# Altium footprint library Indutor.PcbLib: 32 footprints (part 2 of 2)
Each footprint in its own frame and in the unit in brackets; x right, y up, seen from the top. Pads: shape width x height; smd on the part's side, far side on the other; paste and mask are expansions set on the pad; w line width, h text height; cw(c..) or ccw(c..) is an arc to the next point about the centre after c.
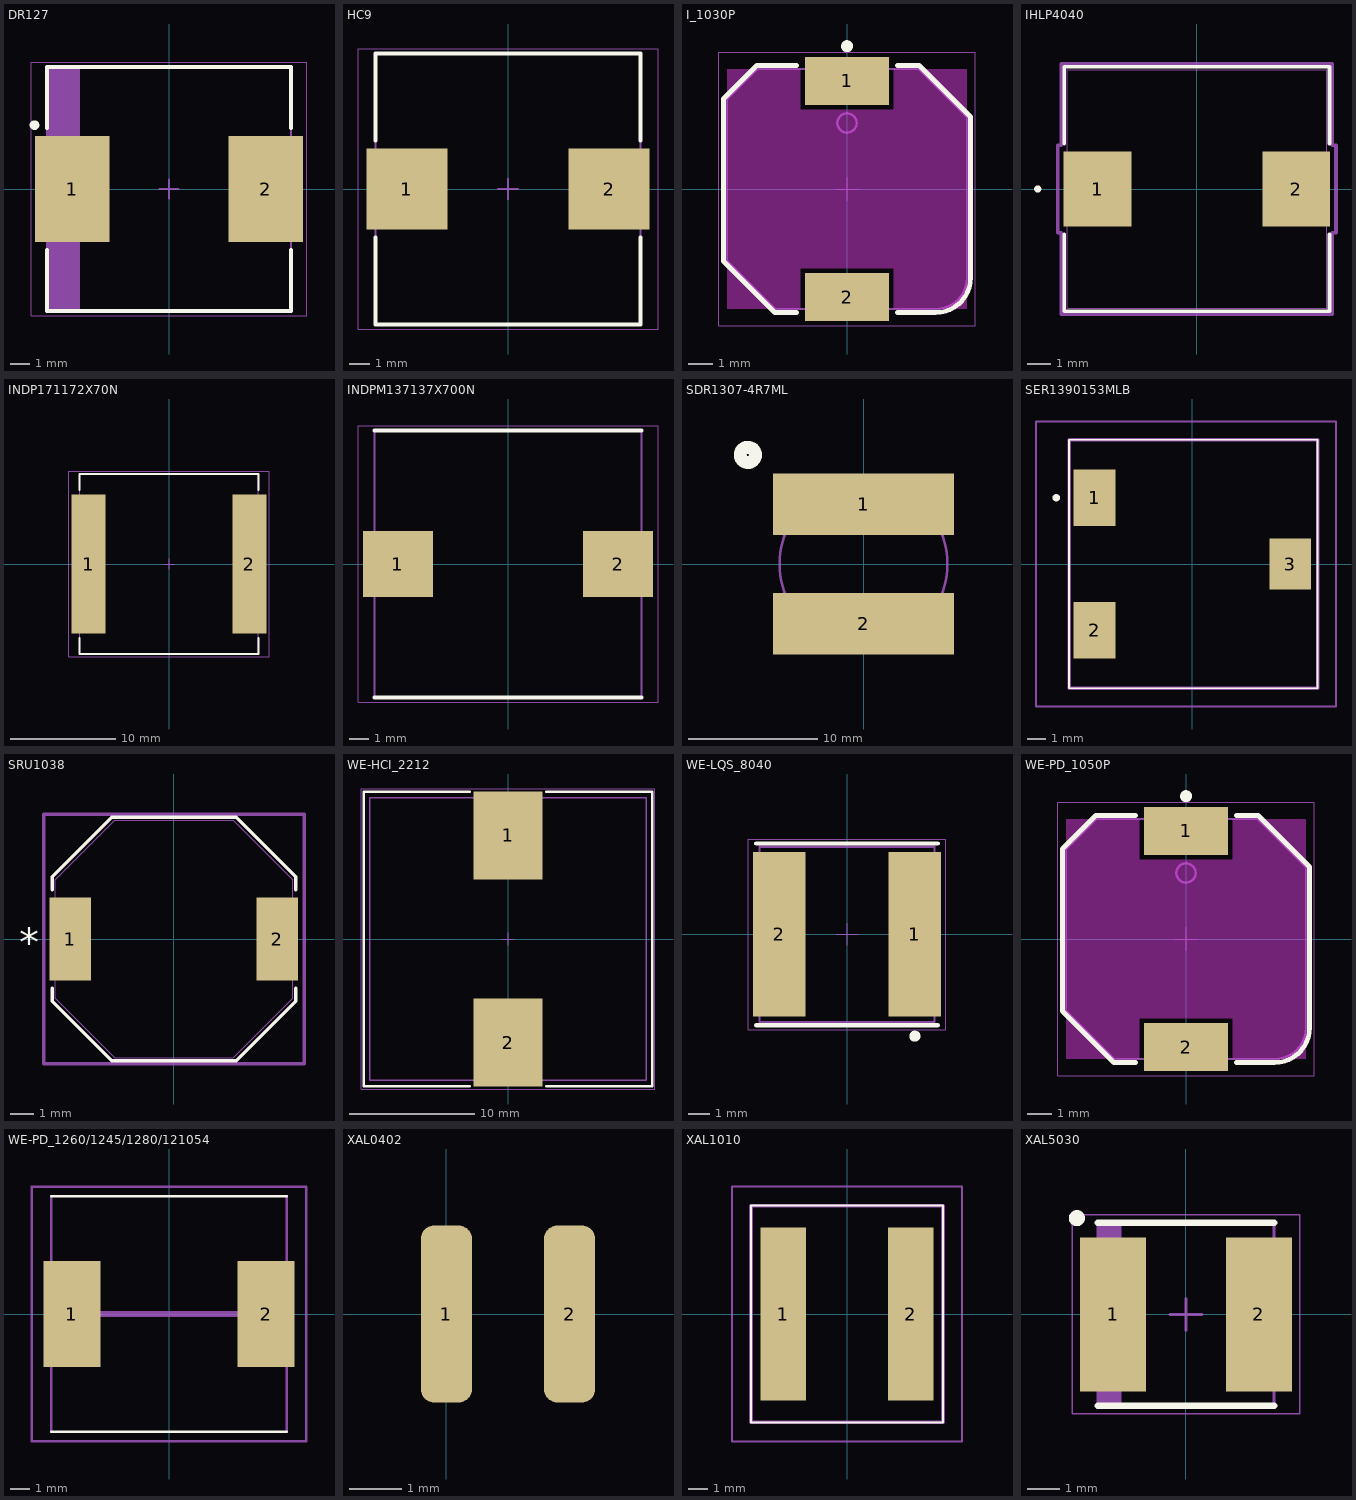
[diagram p1: the footprints below, top view; thin cyan lines are the x and y axes]

## DR127 [mm] "Precision Wire Wound Inductor, 2-Leads, Body 12,50x12,50mm, IPC Medium Density"
height 8
pads (2):
  rect 3.85x5.5 smd: 1(-5,0) 2(5,0)
Top Overlay:
  circle w0.25: c-6.95,3.3 r0.125
  lines w0.2: -6.3,-3.15 -6.3,-6.3 6.3,-6.3 6.3,-3.15 ; -6.3,3.15 -6.3,6.3 6.3,6.3 6.3,3.15
Mechanical 13:
  rectangle: -6.3,-6.3 -4.605,6.3
  lines w0.1: -6.3,-6.3 -6.3,6.3 6.3,6.3 6.3,-6.3 -6.3,-6.3
Mechanical 15:
  lines w0.05: -7.125,-6.55 -7.125,6.55 7.125,6.55 7.125,-6.55 -7.125,-6.55
  lines w0.1: -0.5,0 0.5,0 ; 0,-0.5 0,0.5
3D body "INDP125125X80N.step": height 8.1, standoff 0, extent -6.35,-6.25 6.35,6.25

## HC9 [mm] "Precision Wire Wound Inductor, 2-Leads, Body 13.10x13.40mm, IPC Medium Density"
height 7.5
pads (2):
  rect 4x4 smd: 1(-5,0) 2(5,0)
Top Overlay:
  lines w0.2: -6.55,-2.4 -6.55,-6.7 6.55,-6.7 6.55,-2.4 ; -6.55,2.4 -6.55,6.7 6.55,6.7 6.55,2.4
Mechanical 13:
  lines w0.1: -6.55,-6.7 -6.55,6.7 6.55,6.7 6.55,-6.7 -6.55,-6.7
Mechanical 15:
  lines w0.05: -7.425,-6.95 -7.425,6.95 7.425,6.95 7.425,-6.95 -7.425,-6.95
  lines w0.1: -0.5,0 0.5,0 ; 0,-0.5 0,0.5
3D body: height 7.5, standoff 0, extent -6.55,-6.7 6.55,6.7

## I_1030P [mm] "SMD Shielded Power Inductor, 2-leads, body 10x10mm"
height 3
pads (2):
  rect 3.5x2 smd: 1(0,4.5) 2(0,-4.5)
Top Layer keep-out:
  region: 5,-5 1.95,-5 1.95,-3.3 -1.95,-3.3 -1.95,-5 -5,-5 -5,5 -1.95,5 -1.95,3.3 1.95,3.3 1.95,5 5,5
Top Overlay:
  circle w0.25: c0,5.95 r0.125
  lines w0.2: -2.1,-5.15 -3,-5.15 -5.15,-3 -5.15,3.75 -3.75,5.15 -2.1,5.15 ; 2.1,-5.15 3.7,-5.15 ccw(c3.7,-3.7) 5.15,-3.7 5.15,3 3,5.15 2.1,5.15
Top Component Outline:
  circle w0.1: c0,2.75 r0.4
  lines w0.1: -5,-3 -3,-5 3.7,-5 ccw(c3.7,-3.7) 5,-3.7 5,3 3,5 -3.75,5 -5,3.75 -5,-3
Top 3D Body:
  circle w0.1: c0,2.75 r0.4
  lines w0.1: -5,-3 -5,3.75 -3.75,5 3,5 5,3 5,-3.7 cw(c3.7,-3.7) 3.7,-5 -3,-5 -5,-3
Top Courtyard:
  lines w0.05: -0.5,0 0.5,0 ; 0,-0.5 0,0.5 ; -5.35,-5.7 5.35,-5.7 5.35,5.7 -5.35,5.7 -5.35,-5.7
Top Designator:
  text ".Designator" at -7.498,-0.5 h1.5
3D body "WE-PD_1030_m-base_7447713xx.stp": height 2.85, standoff 0, extent -5,-5 5,5

## IHLP4040 [mil]
pads (2):
  rect 115x128 smd paste+0 mask+0: 1(-168.5,0) 2(168.5,0)
Top Overlay:
  circle w6: c-270,0 r3
  lines w6: -225,-77.1 -225,-207.5 225,-207.5 225,-77.1 ; -225,77.1 -225,207.5 225,207.5 225,77.1
Mechanical 13:
  circle w0: c-200,0 r3
  lines w1: -220,-202.5 220,-202.5 220,202.5 -220,202.5 -220,-202.5
Mechanical 15:
  lines w6: -236,-74 -236,74 -230,74 -230,212.5 230,212.5 230,74 236,74 236,-74 230,-74 230,-212.5 -230,-212.5 -230,-74 -236,-74
3D body: height 10, standoff 0, extent 0,0 10,10
3D body "IHLP4040DZER470M1A.stp": height 152.07, standoff -0.43, extent -210.78,-200.97 207.42,201.23

## INDP171172X70N [mm] "Precision Wire Wound Inductor, 2-Leads, Body 17,13x17,15mm, IPC Medium Density"
height 7
pads (2):
  rect 3.25x13.3 smd: 1(-7.675,0) 2(7.675,0)
Top Overlay:
  lines w0.2: -8.55,-7.05 -8.55,-8.6 8.55,-8.6 8.55,-7.05 ; -8.55,7.05 -8.55,8.6 8.55,8.6 8.55,7.05
Mechanical 13:
  lines w0.1: -8.51,-8.575 -8.51,8.575 8.51,8.575 8.51,-8.575 -8.51,-8.575
Mechanical 15:
  lines w0.05: -9.55,-8.85 -9.55,8.85 9.55,8.85 9.55,-8.85 -9.55,-8.85
  lines w0.1: -0.5,0 0.5,0 ; 0,-0.5 0,0.5
3D body "INDP171172X70N.step": height 7.1, standoff 0, extent -8.662,-8.575 8.662,8.575

## INDPM137137X700N [mm]
pads (2):
  rect 3.6x3.4 smd: 1(-5.65,0) 2(5.65,0)
Top Overlay:
  lines w0.2: -6.85,-6.85 6.85,-6.85 ; -6.85,6.85 6.85,6.85
Mechanical 13:
  lines w0.1: -6.85,-6.85 6.85,-6.85 6.85,6.85 -6.85,6.85 -6.85,-6.85
Mechanical 15:
  lines w0.05: -7.7,-7.1 7.7,-7.1 7.7,7.1 -7.7,7.1 -7.7,-7.1
3D body "SRP1270-100M.stp": height 7, standoff 0, extent -6.85,-6.85 6.85,6.85

## SDR1307-4R7ML [mm]
pads (2):
  rect 14x4.75 smd: 1(0,4.625) 2(0,-4.625)
Top Overlay:
  circle w1: c-8.967,8.454 r0.591
Mechanical 13:
  circle w0.2: c0,0 r6.5
3D body "SDR1307-4R7ML.stp": height 7, standoff 0, extent -6.5,-6.5 6.5,6.5

## SER1390153MLB [mm]
pads (3):
  rect 2.26x3.07 smd: 1(-5.32,3.605) 2(-5.32,-3.605)
  rect 2.26x2.77 smd: 3(5.32,0)
Top Overlay:
  lines w0.1: -6.7,-6.75 6.8,-6.75 6.8,6.75 -6.7,6.75 -6.7,-6.75
  lines w0.2: -7.4,3.5 ccw(c-7.4,3.6) -7.4,3.7 ccw(c-7.4,3.6) -7.4,3.5
Mechanical 13:
  lines w0.2: -6.7,-6.75 6.8,-6.75 6.8,6.75 -6.7,6.75 -6.7,-6.75
Mechanical 15:
  lines w0.1: -8.5,-7.75 7.8,-7.75 7.8,7.75 -8.5,7.75 -8.5,-7.75
3D body "SER1390-153MLB.stp": height 9.1, standoff 0, extent -6.7,-6.75 6.8,6.75

## SRU1038 [mil]
pads (2):
  rect 71x142 smd paste+0 mask+0: 1(-177,0) 2(177,0)
Top Overlay:
  lines w6: -208,-84.1 -208,-106.5 -106.5,-208 106.5,-208 208,-106.5 208,-84.1 ; -208,84.1 -208,106.5 -106.5,208 106.5,208 208,106.5 208,84.1
  text "*" at -265,-30 h50
Mechanical 13:
  lines w1: -203,-101.5 -203,101.5 -101.5,203 101.5,203 203,101.5 203,-101.5 101.5,-203 -101.5,-203 -203,-101.5
  text "*" at -195.5,-50 h50
Mechanical 15:
  lines w6: -222.5,-213 -222.5,213 222.5,213 222.5,-213 -222.5,-213
3D body: height 10, standoff 0, extent 0,0 10,10
3D body "sru1038.stp": height 149.73, standoff 0.13, extent -196.85,-196.85 196.85,196.85

## WE-HCI_2212 [mm] "SMT Flat Wire High Current Inductor, body 22x22.5mm"
height 12
pads (2):
  rect 5.5x7 smd: 1(0,8.25) 2(0,-8.25)
Top Overlay:
  lines w0.2: -3.05,-11.75 -11.5,-11.75 -11.5,11.75 -3.05,11.75 ; 3.05,-11.75 11.5,-11.75 11.5,11.75 3.05,11.75
Top Component Outline:
  lines w0.1: -11,-11.25 -11,11.25 11,11.25 11,-11.25 -11,-11.25
Top 3D Body:
  lines w0.1: -11,-11.25 -11,11.25 11,11.25 11,-11.25 -11,-11.25
Top Courtyard:
  lines w0.05: -0.5,0 0.5,0 ; 0,-0.5 0,0.5 ; -11.7,-11.95 11.7,-11.95 11.7,11.95 -11.7,11.95 -11.7,-11.95
Top Designator:
  text ".Designator" at -7.498,-0.5 h1.5
3D body "7443558xxxx.stp": height 12, standoff 0, extent -11,-11.25 11,11.25

## WE-LQS_8040 [mm] "SMD Power Inductor, 2-Leads, body 8x8mm"
height 4.2
pads (2):
  rect 2.4x7.5 smd: 1(3.1,0) 2(-3.1,0)
Top Overlay:
  circle w0.25: c3.1,-4.65 r0.125
  lines w0.2: -4.15,-4.15 4.15,-4.15 ; -4.15,4.15 4.15,4.15
Top Component Outline:
  circle w0.1: c3,-3 r0.4
  lines w0.1: -4,-4 4,-4 4,4 -4,4 -4,-4
Top 3D Body:
  circle w0.1: c3,-3 r0.4
  lines w0.1: -4,-4 4,-4 4,4 -4,4 -4,-4
Top Courtyard:
  lines w0.05: -0.5,0 0.5,0 ; 0,-0.5 0,0.5 ; -4.5,-4.35 -4.5,4.35 4.5,4.35 4.5,-4.35 -4.5,-4.35
Top Designator:
  text ".Designator" at -7.498,-0.5 h1.5
3D body "LQS_8040.stp": height 4.2, standoff 0, extent -4,-4 4,4

## WE-PD_1050P [mm] "SMD Shielded Power Inductor, 2-leads, body 10x10mm"
height 5
pads (2):
  rect 3.5x2 smd: 1(0,4.5) 2(0,-4.5)
Top Layer keep-out:
  region: 5,-5 1.95,-5 1.95,-3.3 -1.95,-3.3 -1.95,-5 -5,-5 -5,5 -1.95,5 -1.95,3.3 1.95,3.3 1.95,5 5,5
Top Overlay:
  circle w0.25: c0,5.95 r0.125
  lines w0.2: -2.1,-5.15 -3,-5.15 -5.15,-3 -5.15,3.75 -3.75,5.15 -2.1,5.15 ; 2.1,-5.15 3.7,-5.15 ccw(c3.7,-3.7) 5.15,-3.7 5.15,3 3,5.15 2.1,5.15
Top Component Outline:
  circle w0.1: c0,2.75 r0.4
  lines w0.1: -5,-3 -3,-5 3.7,-5 ccw(c3.7,-3.7) 5,-3.7 5,3 3,5 -3.75,5 -5,3.75 -5,-3
Top 3D Body:
  circle w0.1: c0,2.75 r0.4
  lines w0.1: -5,-3 -5,3.75 -3.75,5 3,5 5,3 5,-3.7 cw(c3.7,-3.7) 3.7,-5 -3,-5 -5,-3
Top Courtyard:
  lines w0.05: -0.5,0 0.5,0 ; 0,-0.5 0,0.5 ; -5.35,-5.7 5.35,-5.7 5.35,5.7 -5.35,5.7 -5.35,-5.7
Top Designator:
  text ".Designator" at -7.498,-0.5 h1.5
3D body "WE-PD_1050_m-base_7447714xx.stp": height 4.79, standoff -0.01, extent -5,-5 5,5

## WE-PD_1260/1245/1280/121054 [mm]
pads (2):
  rect 2.9x5.4 smd: 1(-4.95,0) 2(4.95,0)
Top Overlay:
  lines w0.127: -6,-6 6,-6 ; -6,6 6,6
Mechanical 13:
  lines w0.127: -6,-6 -6,6 ; 6,-6 6,6
  lines w0.305: -4.95,0 4.95,0
Mechanical 15:
  lines w0.127: -7,-6.5 7,-6.5 7,6.5 -7,6.5 -7,-6.5
3D body "7447709390.stp": height 8, standoff 0, extent -6,-6 6,6

## XAL0402 [mm]
pads (2):
  rrect50% 0.98x3.4 smd: 1(0,0) 2(2.37,0)
3D body "Coilcraft-XAL4020.step": height 2, standoff -0.1, extent -1.007,-2.15 3.293,2.15

## XAL1010 [mm]
pads (2):
  rect 2.38x9 smd: 1(-3.325,0) 2(3.325,0)
Top Overlay:
  lines w0.1: -5,-5.65 -5,5.65 5,5.65 5,-5.65 -5,-5.65
Mechanical 13:
  lines w0.2: -5,-5.65 -5,5.65 5,5.65 5,-5.65 -5,-5.65
Mechanical 15:
  lines w0.1: -6,-6.65 -6,6.65 6,6.65 6,-6.65 -6,-6.65
3D body "XAL1010-822MEB.stp": height 10.1, standoff 0, extent -5.762,-4.445 4.238,6.855

## XAL5030 [mm] "Precision Wire Wound Inductor, 2-Leads, Body 5,28x5,48mm, IPC Medium Density"
height 4.2
pads (2):
  rect 2.05x4.8 smd: 1(-2.275,0) 2(2.275,0)
Top Overlay:
  circle w0.25: c-3.4,3 r0.125
  lines w0.2: -2.75,-2.85 2.75,-2.85 ; -2.75,2.85 2.75,2.85
Mechanical 13:
  rectangle: -2.74,-2.84 -2.003,2.84
  lines w0.1: -2.74,-2.84 2.74,-2.84 2.74,2.84 -2.74,2.84 -2.74,-2.84
Mechanical 15:
  lines w0.05: -3.55,-3.1 3.55,-3.1 3.55,3.1 -3.55,3.1 -3.55,-3.1
  lines w0.1: -0.5,0 0.5,0 ; 0,-0.5 0,0.5
3D body "INDP5355X42N.step": height 4.3, standoff 0, extent -2.74,-2.74 2.74,2.74